# Altium footprint library CL_1210_H25.PcbLib: 1 footprints
Each footprint in its own frame and in the unit in brackets; x right, y up, seen from the top. Pads: shape width x height; smd on the part's side, far side on the other; paste and mask are expansions set on the pad; w line width, h text height; cw(c..) or ccw(c..) is an arc to the next point about the centre after c.
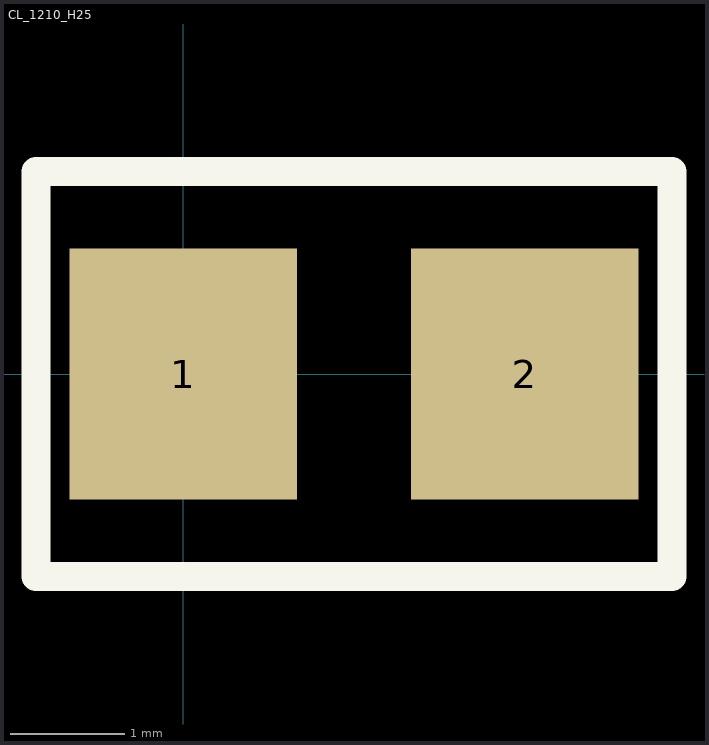
[diagram p0: the footprint, top view; thin cyan lines are the x and y axes]

## CL_1210_H25 [mm] "Body 3.5 x 2.8 mm (LxW typ): EIA 3528-25"
height 2.1
pads (2):
  rect 2x2.2 smd: 1(0,0) 2(3,0)
Top Overlay:
  lines w0.254: -1.294,-1.778 -1.294,1.778 4.294,1.778 4.294,-1.778 -1.294,-1.778
3D body: height 3.2, standoff 0, extent -0.726,-1.651 3.774,1.549